# Altium footprint library UpDuino Camera Adaptor_V2.01.PcbLib: 21 footprints (part 1 of 2)
Each footprint in its own frame and in the unit in brackets; x right, y up, seen from the top. Pads: shape width x height; smd on the part's side, far side on the other; paste and mask are expansions set on the pad; w line width, h text height; cw(c..) or ccw(c..) is an arc to the next point about the centre after c.
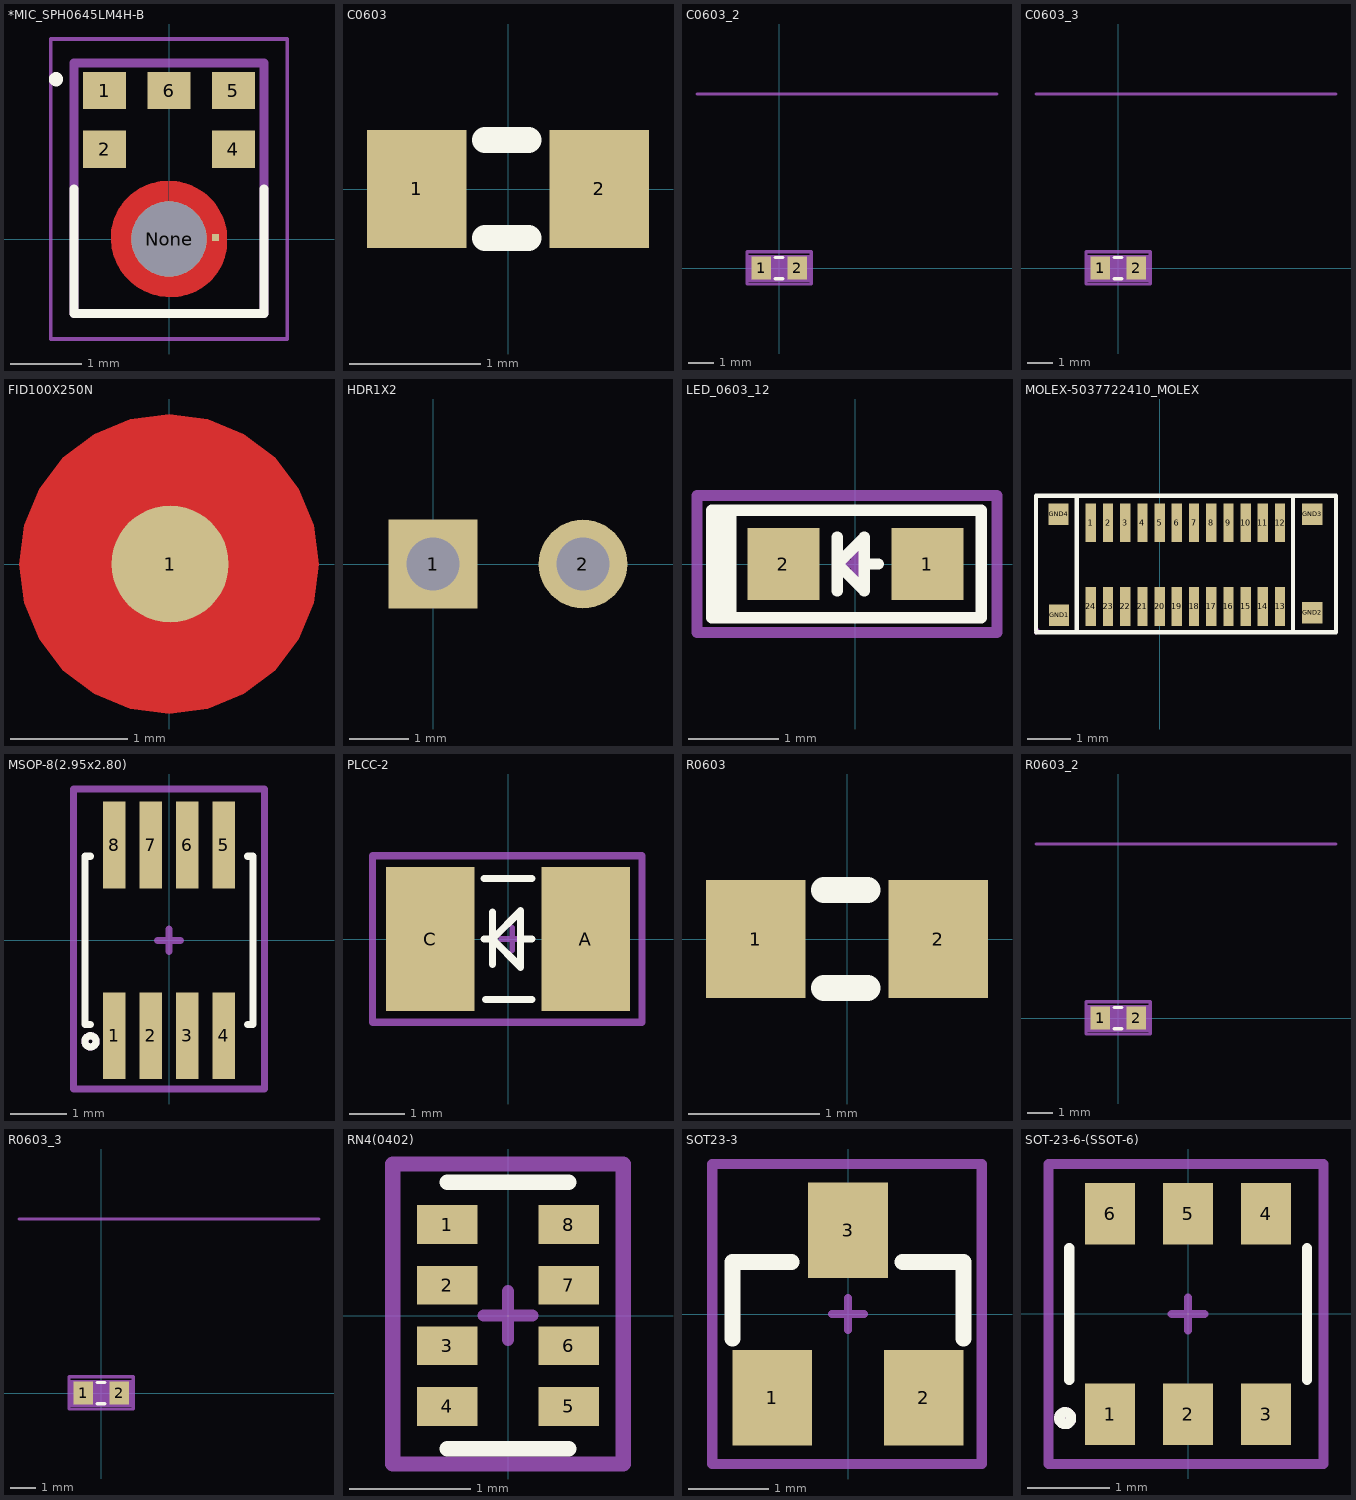
[diagram p0: the footprints below, top view; thin cyan lines are the x and y axes]

## *MIC_SPH0645LM4H-B [mm]
height 1.1
pads (7):
  rect 0.6x0.522 smd: 1(-0.9,2.074) 2(-0.9,1.252) 4(0.9,1.252) 5(0.9,2.074) 6(0,2.074)
  rect 0.1x0.1 smd: 3(0.65,0.02)
  round 1.05 hole 1.05 unplated: None(0,0)
Top Layer:
  region: 255 vertices and 0 holes, not listed, extent -0.81,-0.81 0.81,0.81
Top Overlay:
  circle w0.1: c-1.578,2.232 r0.05
  lines w0.127: -1.325,0.7 -1.325,-1.04 1.325,-1.04 1.325,0.7
Top Paste:
  region: -0.375,0.53 -0.28,0.435 -0.23,0.46 -0.175,0.485 -0.12,0.5 -0.06,0.51 0,0.514 0.12,0.5 0.225,0.462 0.283,0.426 0.385,0.525 0.5,0.64 0.41,0.7 0.31,0.75 0.23,0.78 0.14,0.8 0,0.81 -0.16,0.796 -0.31,0.75 -0.415,0.7 -0.49,0.645
  region: 0.53,0.385 0.425,0.28 0.46,0.23 0.5,0.12 0.514,0 0.5,-0.12 0.462,-0.225 0.421,-0.283 0.52,-0.38 0.64,-0.5 0.705,-0.405 0.75,-0.31 0.78,-0.23 0.8,-0.14 0.81,-0.06 0.81,0.065 0.796,0.16 0.78,0.235 0.75,0.31 0.705,0.405 0.64,0.5
  region: 0.38,-0.53 0.28,-0.425 0.23,-0.46 0.12,-0.5 0,-0.514 -0.12,-0.5 -0.225,-0.462 -0.288,-0.426 -0.385,-0.525 -0.5,-0.64 -0.405,-0.705 -0.31,-0.75 -0.22,-0.78 -0.14,-0.8 0,-0.81 0.16,-0.796 0.31,-0.75 0.425,-0.69 0.495,-0.645
  region: -0.53,-0.385 -0.43,-0.285 -0.465,-0.23 -0.505,-0.12 -0.51,-0.12 -0.505,-0.11 -0.52,-0.005 -0.524,0.005 -0.52,0.005 -0.505,0.125 -0.462,0.225 -0.426,0.293 -0.525,0.39 -0.635,0.505 -0.7,0.41 -0.75,0.31 -0.78,0.22 -0.8,0.14 -0.81,0 -0.796,-0.16 -0.75,-0.31 -0.705,-0.4 -0.64,-0.5
Top Solder:
  circle w0.912: c0,0 r0.456
Mechanical 4:
  lines w0.127: -1.325,-1.04 -1.325,2.46 ; -1.325,-1.04 1.325,-1.04 ; -1.325,-1.04 -1.325,2.46 ; -1.325,-1.04 1.325,-1.04 ; -1.325,2.46 1.325,2.46 ; -1.325,2.46 1.325,2.46 ; 1.325,-1.04 1.325,2.46 ; 1.325,-1.04 1.325,2.46
Mechanical 16:
  lines w0.05: -1.651,-1.397 -1.651,2.794 1.651,2.794 1.651,-1.397 -1.651,-1.397
3D body: height 0.98, standoff 0, extent -1.35,-1.05 1.35,2.5

## C0603 [mil]
height 12.99
pads (2):
  rect 30x35.43 smd mask+4.02: 1(-27.5,0) 2(27.5,0)
Top Overlay:
  lines w7.87: -6.89,-14.76 6.24,-14.76 ; -6.89,14.76 6.24,14.76
3D body "User Library-CAPC1608X___.STEP": height 22.44, standoff 0, extent -31.49,-16.14 31.5,16.14

## C0603_2 [mil]
pads (2):
  rect 30x35.43 smd mask+4.02: 1(-27.5,0) 2(27.48,0)
Top Overlay:
  lines w5: -5.91,-16.14 5.91,-16.14 ; -5.91,16.14 5.91,16.14
Mechanical 3:
  lines w3.94: -7.87,0 7.87,0 ; 0,-7.87 0,7.87
Mechanical 5:
  lines w5: -49.21,-24.41 -49.21,25 49.21,25 49.21,-24.41 -49.21,-24.41
Mechanical 32:
  region: -50,-20 -50,20 50,20 50,-20
  pour cut-out: -50,-20 50,-20 50,20 -50,20
  lines w1: -15,-20 -50,-20 -50,20 -30,20 -15,20 ; 15,-20 50,-20 50,20 15,20 ; -35,-20 -35,20 35,20 35,-20 -35,-20
  lines w5: -126,267 334,267
  text "Remark: ***" at -96,67 h25
  text "Rev   : B1" at -96,107 h25
  text "Date  : 2007-05-10" at -96,147 h25
  text "Creat : Sofer Tech" at -96,187 h25
  text "Ref PN: ***" at -96,227 h25
  text "Sofer Lib Information" at -126,277 h25
  text "Approved" at -112,0 h35
  text "100nF" at -40,-10 h20
  text "C0603" at -60,-65 h30
  text ".Designator" at -40,-12.67 h25
  text "1" at -36.4,0 h16
  text "2" at 23.6,0 h16
3D body "User Library-CAPC1608X___.STEP": height 22.44, standoff 0, extent -31.49,-16.14 31.5,16.14

## C0603_3 [mil]
pads (2):
  rect 30x35.43 smd mask+4.02: 1(-27.5,0) 2(27.48,0)
Top Overlay:
  lines w5: -5.91,-16.14 5.91,-16.14 ; -5.91,16.14 5.91,16.14
Mechanical 3:
  lines w3.94: -7.87,0 7.87,0 ; 0,-7.87 0,7.87
Mechanical 5:
  lines w5: -49.21,-24.41 49.21,-24.41 49.21,25 -49.21,25 -49.21,-24.41
Mechanical 32:
  pour cut-out: -50,-20 50,-20 50,20 -50,20
  region: -50,-20 -50,20 50,20 50,-20
  lines w1: -15,-20 -50,-20 -50,20 -30,20 -15,20 ; 15,-20 50,-20 50,20 15,20 ; -35,-20 35,-20 35,20 -35,20 -35,-20
  lines w5: -126,267 334,267
  text "2" at 23.6,0 h16
  text "1" at -36.4,0 h16
  text ".Designator" at -40,-12.67 h25
  text "C0603" at -60,-65 h30
  text "100nF" at -40,-10 h20
  text "Approved" at -112,0 h35
  text "Sofer Lib Information" at -126,277 h25
  text "Ref PN: ***" at -96,227 h25
  text "Creat : Sofer Tech" at -96,187 h25
  text "Date  : 2007-05-10" at -96,147 h25
  text "Rev   : B1" at -96,107 h25
  text "Remark: ***" at -96,67 h25
3D body "User Library-CAPC1608X___.STEP": height 22.44, standoff 0, extent -31.49,-16.14 31.5,16.14

## FID100X250N [mm]
height 1.1
pads (1):
  round 1 smd paste-0.5 mask+0.75: 1(0.01,0)
Top Layer:
  pour cut-out: 1.281,0 1.237,0.332 1.109,0.64 0.906,0.906 0.64,1.109 0.332,1.237 0,1.281 -0.332,1.237 -0.64,1.109 -0.906,0.906 -1.109,0.64 -1.237,0.332 -1.281,0 -1.237,-0.332 -1.109,-0.64 -0.906,-0.906 -0.64,-1.109 -0.332,-1.237 0,-1.281 0.332,-1.237 0.64,-1.109 0.906,-0.906 1.109,-0.64 1.237,-0.332

## HDR1X2 [mm] "Connector; Header; 2 Position"
pads (2):
  rect 1.5x1.5 hole 0.9: 1(0,0)
  round 1.5 hole 0.9: 2(2.54,0)
Bottom Overlay:
  lines w0.2: -1.27,-1.27 -1.27,1.27 3.81,1.27 3.81,-1.27 -1.27,-1.27

## LED_0603_12 [mm] "Blue 470nm LED Indication - Discrete 2.85V 0603 (1608 Metric)"
height 0.4
pads (2):
  rect 0.8x0.8 smd: 1(0.8,0) 2(-0.8,0)
Top Overlay:
  rectangle: -1.6,-0.6 -1.325,0.6
  lines w0.127: -0.2,-0.3 -0.2,0.3 ; 0.1,0 0.254,0 ; -1.6,-0.6 -1.6,0.6 -1.375,0.6 1.4,0.6 1.4,-0.6 -1.6,-0.6 ; -0.2,0 0.1,0.3 0.1,-0.3 -0.2,0
Mechanical 3:
  lines w0.1: -0.2,0 0.2,0 ; 0,-0.2 0,0.2
Mechanical 5:
  lines w0.127: -1.762,-0.762 -1.762,0.762 1.575,0.762 1.575,-0.762 -1.762,-0.762
3D body "User Library-LED_0603_B.STEP": height 0.6, standoff 0, extent -0.8,-0.4 0.8,0.4

## MOLEX-5037722410_MOLEX [mm] "MOLEX-5037722410_MOLEX"
height 0.33
pads (28):
  rect 0.24x0.9 smd: 1(-1.6,-6.05) 2(-1.2,-6.05) 3(-0.8,-6.05) 4(-0.4,-6.05) 5(0,-6.05) 6(0.4,-6.05) 7(0.8,-6.05) 8(1.2,-6.05) 9(1.6,-6.05) 10(2,-6.05) 11(2.4,-6.05) 12(2.8,-6.05) 13(2.8,-8) 14(2.4,-8) 15(2,-8) 16(1.6,-8) 17(1.2,-8) 18(0.8,-8) 19(0.4,-8) 20(0,-8) 21(-0.4,-8) 22(-0.8,-8) 23(-1.2,-8) 24(-1.6,-8)
  rect 0.47x0.5 smd: GND1(-2.339,-8.202) GND2(3.55,-8.148) GND3(3.55,-5.851) GND4(-2.35,-5.85)
Top Overlay:
  lines w0.102: -2.875,-8.6 -1.925,-8.6 ; -2.875,-8.55 -2.875,-5.425 4.1,-5.425 4.1,-8.6 3.1,-8.6 ; -1.925,-5.45 -1.925,-8.6 ; 3.1,-5.475 3.1,-8.6 ; -1.925,-8.6 3.1,-8.6
Mechanical 7:
  lines w0.102: -2.875,-8.6 -2.875,-8.55 -2.85,-8.55
3D body: height 1.27, standoff 0, extent -1.72,-6.5 -1.48,-5.6
3D body: height 1.27, standoff 0, extent -1.32,-6.5 -1.08,-5.6
3D body: height 1.27, standoff 0, extent -0.92,-6.5 -0.68,-5.6
3D body: height 1.27, standoff 0, extent -0.52,-6.5 -0.28,-5.6
3D body: height 1.27, standoff 0, extent -0.12,-6.5 0.12,-5.6
3D body: height 1.27, standoff 0, extent 0.28,-6.5 0.52,-5.6
3D body: height 1.27, standoff 0, extent 0.68,-6.5 0.92,-5.6
3D body: height 1.27, standoff 0, extent 1.08,-6.5 1.32,-5.6
3D body: height 1.27, standoff 0, extent 1.48,-6.5 1.72,-5.6
3D body: height 1.27, standoff 0, extent 1.88,-6.5 2.12,-5.6
3D body: height 1.27, standoff 0, extent 2.28,-6.5 2.52,-5.6
3D body: height 1.27, standoff 0, extent 2.68,-6.5 2.92,-5.6
3D body: height 1.27, standoff 0, extent -1.72,-8.45 -1.48,-7.55
3D body: height 1.27, standoff 0, extent -1.32,-8.45 -1.08,-7.55
3D body: height 1.27, standoff 0, extent -0.92,-8.45 -0.68,-7.55
3D body: height 1.27, standoff 0, extent -0.52,-8.45 -0.28,-7.55
3D body: height 1.27, standoff 0, extent -0.12,-8.45 0.12,-7.55
3D body: height 1.27, standoff 0, extent 0.28,-8.45 0.52,-7.55
3D body: height 1.27, standoff 0, extent 0.68,-8.45 0.92,-7.55
3D body: height 1.27, standoff 0, extent 1.08,-8.45 1.32,-7.55
3D body: height 1.27, standoff 0, extent -2.574,-8.452 -2.104,-7.952
3D body: height 1.27, standoff 0, extent 3.315,-8.398 3.785,-7.898
3D body: height 1.27, standoff 0, extent -2.585,-6.1 -2.115,-5.6
3D body: height 1.27, standoff 0, extent 3.315,-6.101 3.785,-5.601
3D body: height 1.27, standoff 0, extent 1.48,-8.45 1.72,-7.55
3D body: height 1.27, standoff 0, extent 1.88,-8.45 2.12,-7.55
3D body: height 1.27, standoff 0, extent 2.28,-8.45 2.52,-7.55
3D body: height 1.27, standoff 0, extent 2.68,-8.45 2.92,-7.55

## MSOP-8(2.95x2.80) [mm] "SN74AVC2T45DCT-SM8"
height 1.1
pads (8):
  rect 0.4x1.55 smd: 1(-0.975,-1.7) 2(-0.325,-1.7) 3(0.325,-1.7) 4(0.975,-1.7) 5(0.975,1.7) 6(0.325,1.7) 7(-0.325,1.7) 8(-0.975,1.7)
Top Overlay:
  circle w0.127: c-1.4,-1.8 r0.1
  lines w0.127: -1.4,-1.5 -1.5,-1.5 -1.5,1.5 -1.4,1.5 ; 1.4,-1.5 1.5,-1.5 1.5,1.5 1.4,1.5
Mechanical 3:
  circle w0.127: c-1.4,-1.8 r0.1
  lines w0.127: -0.2,0 0.2,0 ; 0,-0.2 0,0.2
Mechanical 5:
  lines w0.127: -1.7,-2.65 1.7,-2.65 1.7,2.7 -1.7,2.7 -1.7,-2.65

## PLCC-2 [mm] "3.5 x 2.8 x 1.75"
height 1
pads (2):
  rect 1.6x2.6 smd: A(1.4,0) C(-1.4,0)
Top Overlay:
  lines w0.127: -0.433,0 -0.279,0 ; -0.432,1.092 0.432,1.092 ; -0.406,-1.092 0.432,-1.092 ; -0.279,-0.457 -0.279,0.483 ; 0.229,0 0.432,0 ; 0.229,0.483 0.229,-0.508 -0.279,0 ; 0.229,0.508 -0.279,0
Mechanical 3:
  lines w0.1: -0.124,0 0.276,0 ; 0.076,-0.2 0.076,0.2
Mechanical 5:
  lines w0.127: -2.438,-1.499 2.413,-1.499 2.413,1.499 -2.438,1.499 -2.438,-1.499

## R0603 [mil]
height 12.99
pads (2):
  rect 30x35.43 smd mask+4.02: 1(-27.5,0) 2(27.5,0)
Top Overlay:
  lines w7.87: -6.89,-14.76 6.24,-14.76 ; -6.89,14.76 6.24,14.76
3D body "User Library-R0603.step": height 14.72, standoff 0, extent -31.5,-15.87 31.5,15.71

## R0603_2 [mil]
pads (2):
  rect 30x35.43 smd mask+4.02: 1(-27.5,0) 2(27.48,0)
Top Overlay:
  lines w5: -5.91,-16.14 5.91,-16.14 ; -5.91,16.14 5.91,16.14
Mechanical 3:
  lines w3.94: -7.87,0 7.87,0 ; 0,-7.87 0,7.87
Mechanical 5:
  lines w5: -49.21,-24.41 49.21,-24.41 49.21,25 -49.21,25 -49.21,-24.41
Mechanical 32:
  pour cut-out: -50,-20 50,-20 50,20 -50,20
  region: -50,-20 -50,20 50,20 50,-20
  lines w1: -15,-20 -50,-20 -50,20 -30,20 -15,20 ; 15,-20 50,-20 50,20 15,20 ; -35,-20 35,-20 35,20 -35,20 -35,-20
  lines w5: -126,267 334,267
  text "2" at 23.6,0 h16
  text "1" at -36.4,0 h16
  text ".Designator" at -40,-12.67 h25
  text "C0603" at -60,-65 h30
  text "100nF" at -40,-10 h20
  text "Approved" at -112,0 h35
  text "Sofer Lib Information" at -126,277 h25
  text "Ref PN: ***" at -96,227 h25
  text "Creat : Sofer Tech" at -96,187 h25
  text "Date  : 2007-05-10" at -96,147 h25
  text "Rev   : B1" at -96,107 h25
  text "Remark: ***" at -96,67 h25
3D body "User Library-RES_1609-0603.step": height 22.05, standoff 0, extent -33.46,-15.74 33.47,15.75

## R0603_3 [mil]
pads (2):
  rect 30x35.43 smd mask+4.02: 1(-27.5,0) 2(27.48,0)
Top Overlay:
  lines w5: -5.91,-16.14 5.91,-16.14 ; -5.91,16.14 5.91,16.14
Mechanical 3:
  lines w3.94: -7.87,0 7.87,0 ; 0,-7.87 0,7.87
Mechanical 5:
  lines w5: -49.21,-24.41 49.21,-24.41 49.21,25 -49.21,25 -49.21,-24.41
Mechanical 32:
  pour cut-out: -50,-20 50,-20 50,20 -50,20
  region: -50,-20 -50,20 50,20 50,-20
  lines w1: -15,-20 -50,-20 -50,20 -30,20 -15,20 ; 15,-20 50,-20 50,20 15,20 ; -35,-20 35,-20 35,20 -35,20 -35,-20
  lines w5: -126,267 334,267
  text "2" at 23.6,0 h16
  text "1" at -36.4,0 h16
  text ".Designator" at -40,-12.67 h25
  text "C0603" at -60,-65 h30
  text "100nF" at -40,-10 h20
  text "Approved" at -112,0 h35
  text "Sofer Lib Information" at -126,277 h25
  text "Ref PN: ***" at -96,227 h25
  text "Creat : Sofer Tech" at -96,187 h25
  text "Date  : 2007-05-10" at -96,147 h25
  text "Rev   : B1" at -96,107 h25
  text "Remark: ***" at -96,67 h25
3D body "User Library-RES_1609-0603.step": height 22.05, standoff 0, extent -33.46,-15.74 33.47,15.75

## RN4(0402) [mm]
height 0.33
pads (8):
  rect 0.5x0.32 smd mask+0.102: 1(-0.5,0.75) 2(-0.5,0.25) 3(-0.5,-0.25) 4(-0.5,-0.75) 5(0.5,-0.75) 6(0.5,-0.25) 7(0.5,0.25) 8(0.5,0.75)
Top Overlay:
  lines w0.127: -0.5,-1.1 0.5,-1.1 ; -0.5,1.1 0.5,1.1
Mechanical 3:
  lines w0.1: -0.2,0 0.2,0 ; 0,-0.2 0,0.2
Mechanical 5:
  lines w0.127: -0.95,1.25 -0.95,-1.225 0.95,-1.225 0.95,1.25 -0.925,1.25
3D body "RES_C1005X04o2N.step": height 0.35, standoff 0, extent -0.5,-0.25 0.5,0.25

## SOT23-3 [mm] "SOT23, 3-Leads, Body 3.0x2.6mm (max), Pitch 0.95mm, IPC Medium Density"
height 1.1
pads (3):
  rect 1x1.2 smd: 1(-0.95,-1.05) 2(0.95,-1.05) 3(0,1.05)
Top Overlay:
  lines w0.2: -1.45,-0.31 -1.45,0.65 -0.707,0.65 ; 0.684,0.65 1.45,0.65 1.45,-0.31
Mechanical 3:
  lines w0.1: -0.2,0 0.2,0 ; 0,-0.2 0,0.2
Mechanical 5:
  lines w0.127: -1.702,-1.88 -1.702,1.88 1.676,1.88 1.676,-1.88 -1.702,-1.88
3D body "User Library-SOT-23-3-1.STEP": height 1.1, standoff 0, extent -1.5,-1.492 1.5,1.05

## SOT-23-6-(SSOT-6) [mm]
height 0.33
pads (6):
  rect 0.61x0.75 smd: 1(-0.95,-1.225) 2(0,-1.225) 3(0.95,-1.225) 4(0.95,1.225) 5(0,1.225) 6(-0.95,1.225)
Top Overlay:
  circle w0.127: c-1.499,-1.27 r0.071
  lines w0.127: -1.45,-0.8 -1.45,0.8 ; 1.45,-0.8 1.45,0.8
Mechanical 3:
  circle w0.127: c-1.499,-1.27 r0.071
  lines w0.1: -0.2,0 0.2,0 ; 0,-0.2 0,0.2
Mechanical 5:
  lines w0.127: -1.702,-1.829 -1.702,1.829 1.651,1.829 1.651,-1.829 -1.702,-1.829
3D body "User Library-SSOT-6.STEP": height 1.05, standoff 0, extent -1.49,-1.51 1.51,1.49